# EAGLE library part MY_F4_DISC (library Shohei)
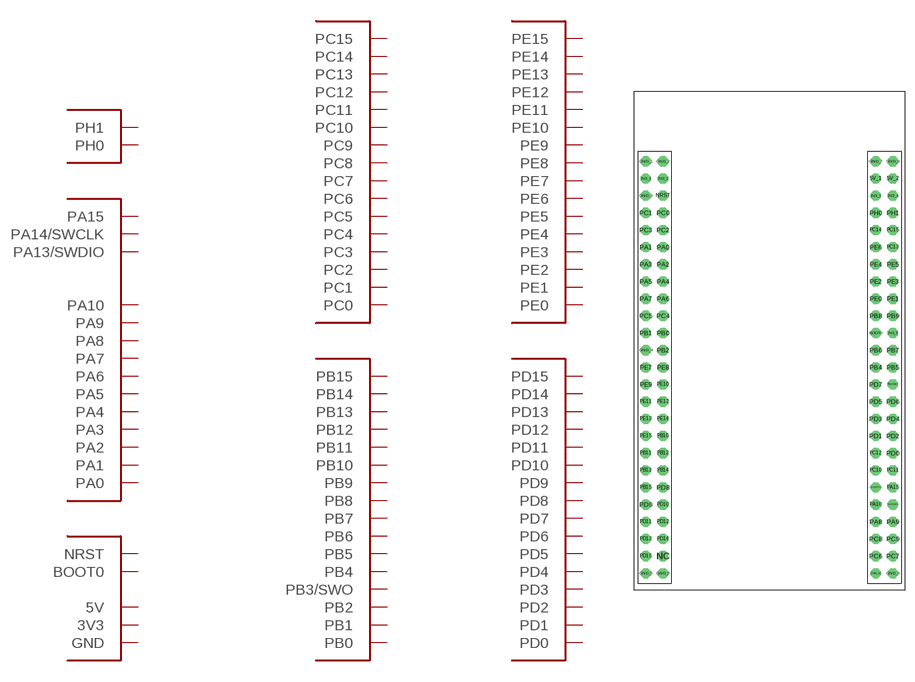
[diagram p14: symbol with the pads of MY_F4_DISCOVERY; footprint MY_F4_DISCOVERY]

Designator prefix -

## MY_F4_DISC  [MY_F4_DISCOVERY]
3V3_1  3V3
3V3_2  3V3
3V3_3  3V3
3V3_4  3V3
3V3_5  3V3
5V_1  5V
5V_2  5V
BOOT0  BOOT0
GND_1  GND
GND_2  GND
GND_3  GND
GND_4  GND
GND_5  GND
GND_6  GND
GND_7  GND
GND_8  GND
GND_9  GND
GND_10  GND
NRST  NRST
PA0  PA0
PA1  PA1
PA2  PA2
PA3  PA3
PA4  PA4
PA5  PA5
PA6  PA6
PA7  PA7
PA8  PA8
PA9  PA9
PA10  PA10
PA13/SWDIO  PA13/SWDIO
PA14/SWCLK  PA14/SWCLK
PA15  PA15
PB0  PB0
PB1  PB1
PB2  PB2
PB3/SWO  PB3/SWO
PB4  PB4
PB5  PB5
PB6  PB6
PB7  PB7
PB8  PB8
PB9  PB9
PB10  PB10
PB11  PB11
PB12  PB12
PB13  PB13
PB14  PB14
PB15  PB15
PC0  PC0
PC1  PC1
PC2  PC2
PC3  PC3
PC4  PC4
PC5  PC5
PC6  PC6
PC7  PC7
PC8  PC8
PC9  PC9
PC10  PC10
PC11  PC11
PC12  PC12
PC13  PC13
PC14  PC14
PC15  PC15
PD0  PD0
PD1  PD1
PD2  PD2
PD3  PD3
PD4  PD4
PD5  PD5
PD6  PD6
PD7  PD7
PD8  PD8
PD9  PD9
PD10  PD10
PD11  PD11
PD12  PD12
PD13  PD13
PD14  PD14
PD15  PD15
PE0  PE0
PE1  PE1
PE2  PE2
PE3  PE3
PE4  PE4
PE5  PE5
PE6  PE6
PE7  PE7
PE8  PE8
PE9  PE9
PE10  PE10
PE11  PE11
PE12  PE12
PE13  PE13
PE14  PE14
PE15  PE15
PH0  PH0
PH1  PH1

## Footprint MY_F4_DISCOVERY (pad centres in mm)
drill 1 pad 1.473 octagon: 3V3_1 -18.27,27.94; 3V3_2 -15.73,27.94; 3V3_3 15.73,25.4; 3V3_4 18.27,25.4; 3V3_5 18.27,5.08; 5V_1 15.73,27.94; 5V_2 18.27,27.94; BOOT0 15.73,5.08; GND_1 -18.27,30.48; GND_2 -15.73,30.48; GND_3 -18.27,25.4; GND_4 -18.27,2.54; GND_5 -18.27,-30.48; GND_6 -15.73,-30.48; GND_7 15.73,30.48; GND_8 18.27,30.48; GND_9 18.27,-30.48; GND_10 15.73,-30.48; NC -15.73,-27.94; NRST -15.73,25.4; PA0 -15.73,17.78; PA1 -18.27,17.78; PA2 -15.73,15.24; PA3 -18.27,15.24; PA4 -15.73,12.7; PA5 -18.27,12.7; PA6 -15.73,10.16; PA7 -18.27,10.16; PA8 15.73,-22.86; PA9 18.27,-22.86; PA10 15.73,-20.32; PA13/SWDIO 18.27,-20.32; PA14/SWCLK 15.73,-17.78; PA15 18.27,-17.78; PB0 -15.73,5.08; PB1 -18.27,5.08; PB2 -15.73,2.54; PB3/SWO 18.27,-2.54; PB4 15.73,0; PB5 18.27,0; PB6 15.73,2.54; PB7 18.27,2.54; PB8 15.73,7.62; PB9 18.27,7.62; PB10 -15.73,-10.16; PB11 -18.27,-12.7; PB12 -15.73,-12.7; PB13 -18.27,-15.24; PB14 -15.73,-15.24; PB15 -18.27,-17.78; PC0 -15.73,22.86; PC1 -18.27,22.86; PC2 -15.73,20.32; PC3 -18.27,20.32; PC4 -15.73,7.62; PC5 -18.27,7.62; PC6 15.73,-27.94; PC7 18.27,-27.94; PC8 15.73,-25.4; PC9 18.27,-25.4; PC10 15.73,-15.24; PC11 18.27,-15.24; PC12 15.73,-12.7; PC13 18.27,17.78; PC14 15.73,20.32; PC15 18.27,20.32; PD0 18.27,-12.7; PD1 15.73,-10.16; PD2 18.27,-10.16; PD3 15.73,-7.62; PD4 18.27,-7.62; PD5 15.73,-5.08; PD6 18.27,-5.08; PD7 15.73,-2.54; PD8 -15.73,-17.78; PD9 -18.27,-20.32; PD10 -15.73,-20.32; PD11 -18.27,-22.86; PD12 -15.73,-22.86; PD13 -18.27,-25.4; PD14 -15.73,-25.4; PD15 -18.27,-27.94; PE0 15.73,10.16; PE1 18.27,10.16; PE2 15.73,12.7; PE3 18.27,12.7; PE4 15.73,15.24; PE5 18.27,15.24; PE6 15.73,17.78; PE7 -18.27,0; PE8 -15.73,0; PE9 -18.27,-2.54; PE10 -15.73,-2.54; PE11 -18.27,-5.08; PE12 -15.73,-5.08; PE13 -18.27,-7.62; PE14 -15.73,-7.62; PE15 -18.27,-10.16; PH0 15.73,22.86; PH1 18.27,22.86